# EAGLE library part MAX4172EUA+ (library piccoli)
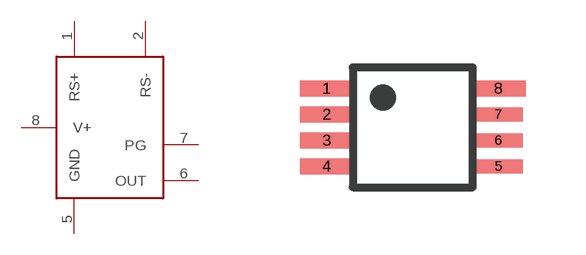
[diagram p6: symbol with the pads of TSSOP8; footprint TSSOP8]

Designator prefix -

## MAX4172EUA+  [TSSOP8]
1  RS+
2  RS-
5  GND
6  OUT
7  PG
8  V+

## Footprint TSSOP8 (pad centres in mm)
smd 1.35 x 0.4: 1 -2.15,0.975; 2 -2.15,0.325; 3 -2.15,-0.325; 4 -2.15,-0.975; 8 2.15,0.975
smd 1.2 x 0.35: 5 2.15,-0.975; 6 2.15,-0.325; 7 2.15,0.325